# Altium schematic symbol library Connector - MJ.SchLib: 29 symbols
Pins are listed as number, name and electrical type; pins without a type are passive.

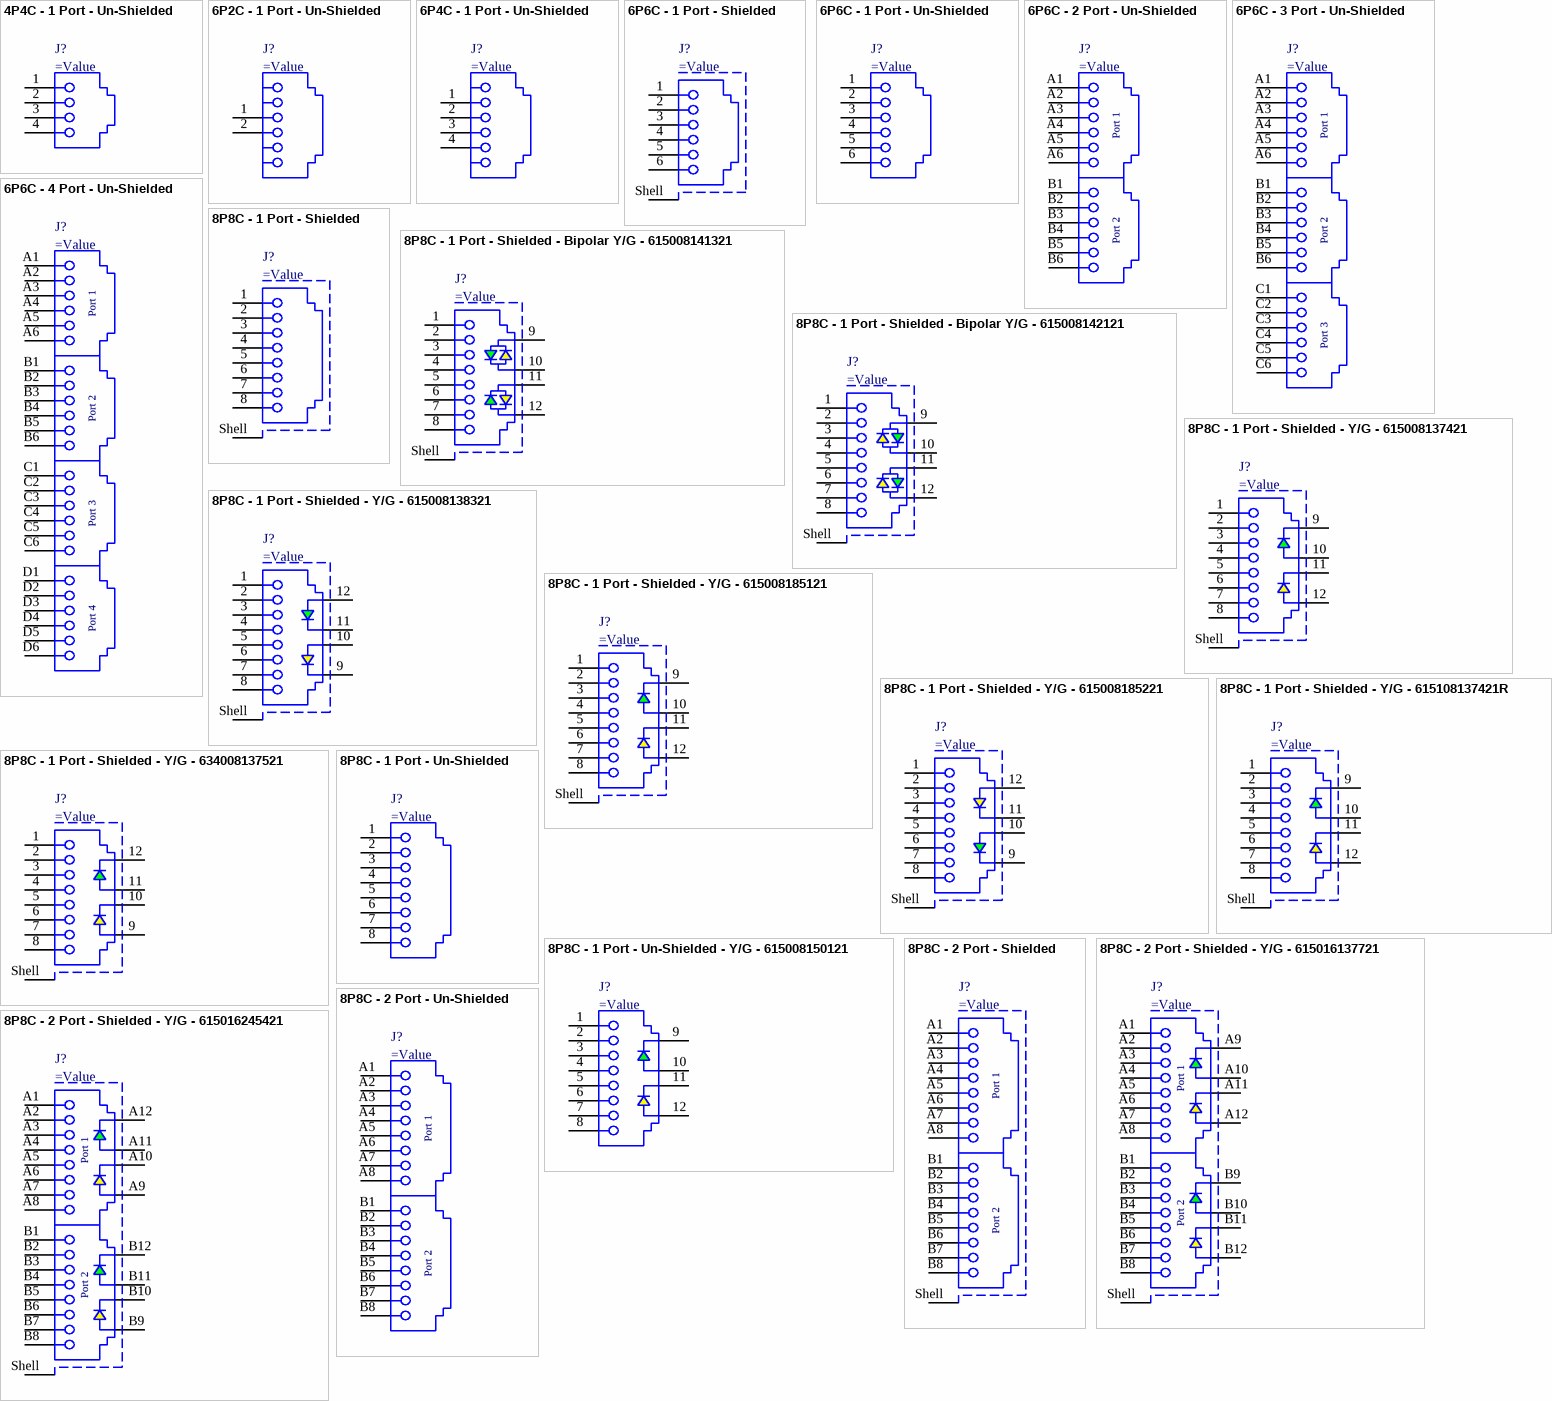
[diagram p0: symbols 4P4C - 1 Port - Un-Shielded to 8P8C - 2 Port - Un-Shielded]

## 4P4C - 1 Port - Un-Shielded
designator J?
pins: 1, 2, 3, 4

## 6P2C - 1 Port - Un-Shielded
designator J?
pins: 1, 2

## 6P4C - 1 Port - Un-Shielded
designator J?
pins: 1, 2, 3, 4

## 6P6C - 1 Port - Shielded
designator J?
pins: 1, 2, 3, 4, 5, 6, Shell

## 6P6C - 1 Port - Un-Shielded
designator J?
pins: 1, 2, 3, 4, 5, 6

## 6P6C - 2 Port - Un-Shielded
designator J?
pins: A1, A2, A3, A4, A5, A6, B1, B2, B3, B4, B5, B6
text: Port 1; Port 2

## 6P6C - 3 Port - Un-Shielded
designator J?
pins: A1, A2, A3, A4, A5, A6, B1, B2, B3, B4, B5, B6, C1, C2, C3, C4, C5, C6
text: Port 1; Port 2; Port 3

## 6P6C - 4 Port - Un-Shielded
designator J?
pins: A1, A2, A3, A4, A5, A6, B1, B2, B3, B4, B5, B6, C1, C2, C3, C4, C5, C6, D1, D2, D3, D4, D5, D6
text: Port 1; Port 2; Port 3; Port 4

## 8P8C - 1 Port - Shielded
designator J?
pins: 1, 2, 3, 4, 5, 6, 7, 8, Shell

## 8P8C - 1 Port - Shielded - Bipolar Y/G - 615008141321
designator J?
pins: 1, 2, 3, 4, 5, 6, 7, 8, 9, 10, 11, 12, Shell

## 8P8C - 1 Port - Shielded - Bipolar Y/G - 615008142121
designator J?
pins: 1, 2, 3, 4, 5, 6, 7, 8, 9, 10, 11, 12, Shell

## 8P8C - 1 Port - Shielded - Y/G - 615008137421
designator J?
pins: 1, 2, 3, 4, 5, 6, 7, 8, 9, 10, 11, 12, Shell

## 8P8C - 1 Port - Shielded - Y/G - 615008138321
designator J?
pins: 1, 2, 3, 4, 5, 6, 7, 8, 9, 10, 11, 12, Shell

## 8P8C - 1 Port - Shielded - Y/G - 615008185121
designator J?
pins: 1, 2, 3, 4, 5, 6, 7, 8, 9, 10, 11, 12, Shell

## 8P8C - 1 Port - Shielded - Y/G - 615008185221
designator J?
pins: 1, 2, 3, 4, 5, 6, 7, 8, 9, 10, 11, 12, Shell

## 8P8C - 1 Port - Shielded - Y/G - 615108137421R
designator J?
pins: 1, 2, 3, 4, 5, 6, 7, 8, 9, 10, 11, 12, Shell

## 8P8C - 1 Port - Shielded - Y/G - 634008137521
designator J?
pins: 1, 2, 3, 4, 5, 6, 7, 8, 9, 10, 11, 12, Shell

## 8P8C - 1 Port - Un-Shielded
designator J?
pins: 1, 2, 3, 4, 5, 6, 7, 8

## 8P8C - 1 Port - Un-Shielded - Y/G - 615008150121
designator J?
pins: 1, 2, 3, 4, 5, 6, 7, 8, 9, 10, 11, 12

## 8P8C - 2 Port - Shielded
designator J?
pins: A1, A2, A3, A4, A5, A6, A7, A8, B1, B2, B3, B4, B5, B6, B7, B8, Shell
text: Port 1; Port 2

## 8P8C - 2 Port - Shielded - Y/G - 615016137721
designator J?
pins: A1, A2, A3, A4, A5, A6, A7, A8, A9, A10, A11, A12, B1, B2, B3, B4, B5, B6, B7, B8, B9, B10, B11, B12, Shell
text: Port 1; Port 2

## 8P8C - 2 Port - Shielded - Y/G - 615016245421
designator J?
pins: A1, A2, A3, A4, A5, A6, A7, A8, A9, A10, A11, A12, B1, B2, B3, B4, B5, B6, B7, B8, B9, B10, B11, B12, Shell
text: Port 1; Port 2

## 8P8C - 2 Port - Un-Shielded
designator J?
pins: A1, A2, A3, A4, A5, A6, A7, A8, B1, B2, B3, B4, B5, B6, B7, B8
text: Port 1; Port 2

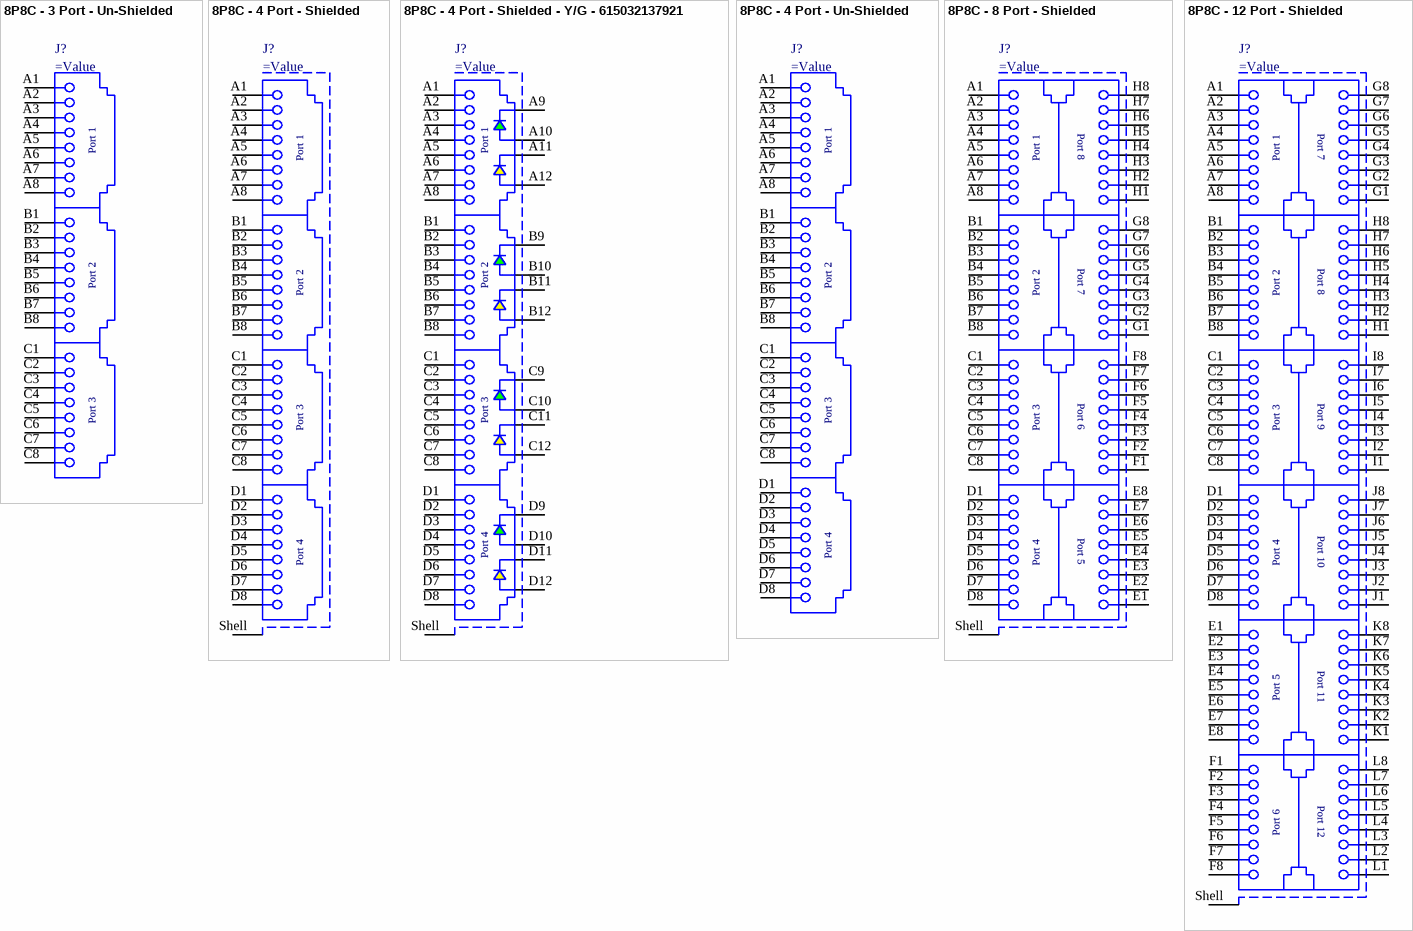
[diagram p1: symbols 8P8C - 3 Port - Un-Shielded to 8P8C - 12 Port - Shielded]

## 8P8C - 3 Port - Un-Shielded
designator J?
pins: A1, A2, A3, A4, A5, A6, A7, A8, B1, B2, B3, B4, B5, B6, B7, B8, C1, C2, C3, C4, C5, C6, C7, C8
text: Port 1; Port 2; Port 3

## 8P8C - 4 Port - Shielded
designator J?
pins: A1, A2, A3, A4, A5, A6, A7, A8, B1, B2, B3, B4, B5, B6, B7, B8, C1, C2, C3, C4, C5, C6, C7, C8, D1, D2, D3, D4, D5, D6, D7, D8, Shell
text: Port 1; Port 2; Port 3; Port 4

## 8P8C - 4 Port - Shielded - Y/G - 615032137921
designator J?
pins: A1, A2, A3, A4, A5, A6, A7, A8, A9, A10, A11, A12, B1, B2, B3, B4, B5, B6, B7, B8, B9, B10, B11, B12, C1, C2, C3, C4, C5, C6, C7, C8, C9, C10, C11, C12, D1, D2, D3, D4, D5, D6, D7, D8, D9, D10, D11, D12, Shell
text: Port 1; Port 2; Port 3; Port 4

## 8P8C - 4 Port - Un-Shielded
designator J?
pins: A1, A2, A3, A4, A5, A6, A7, A8, B1, B2, B3, B4, B5, B6, B7, B8, C1, C2, C3, C4, C5, C6, C7, C8, D1, D2, D3, D4, D5, D6, D7, D8
text: Port 1; Port 2; Port 3; Port 4

## 8P8C - 8 Port - Shielded
designator J?
pins: A1, A2, A3, A4, A5, A6, A7, A8, B1, B2, B3, B4, B5, B6, B7, B8, C1, C2, C3, C4, C5, C6, C7, C8, D1, D2, D3, D4, D5, D6, D7, D8, E1, E2, E3, E4, E5, E6, E7, E8, F1, F2, F3, F4, F5, F6, F7, F8, G1, G2, G3, G4, G5, G6, G7, G8, H1, H2, H3, H4, H5, H6, H7, H8, Shell
text: Port 1; Port 8; Port 2; Port 7; Port 3; Port 6; Port 4; Port 5

## 8P8C - 12 Port - Shielded
designator J?
pins: A1, A2, A3, A4, A5, A6, A7, A8, B1, B2, B3, B4, B5, B6, B7, B8, C1, C2, C3, C4, C5, C6, C7, C8, D1, D2, D3, D4, D5, D6, D7, D8, E1, E2, E3, E4, E5, E6, E7, E8, F1, F2, F3, F4, F5, F6, F7, F8, G1, G2, G3, G4, G5, G6, G7, G8, H1, H2, H3, H4, H5, H6, H7, H8, I1, I2, I3, I4, I5, I6, I7, I8, J1, J2, J3, J4, J5, J6, J7, J8, K1, K2, K3, K4, K5, K6, K7, K8, L1, L2, L3, L4, L5, L6, L7, L8, Shell
text: Port 1; Port 7; Port 2; Port 8; Port 3; Port 9; Port 4; Port 10; Port 5; Port 11; Port 6; Port 12